# EAGLE library part TPS542* (library ic-TI)
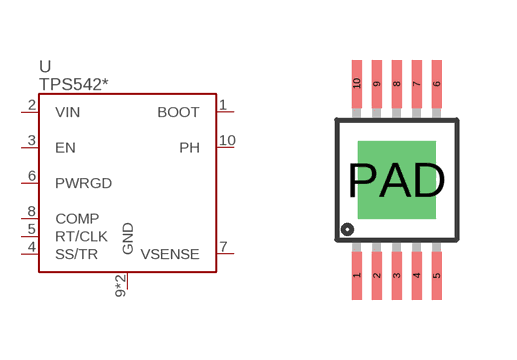
[diagram p45: symbol with the pads of MSOP10-PAD; footprint MSOP10-PAD]

Designator prefix U

## TPS54240DGQ, TPS54260DGQ  [MSOP10-PAD]
1  BOOT
2  VIN
3  EN
4  SS/TR
5  RT/CLK
6  PWRGD
7  VSENSE
8  COMP
9  GND
10  PH
PAD  GND

## Footprint MSOP10-PAD (pad centres in mm)
smd 0.25 x 1.2: 1 -1,-2.4; 2 -0.5,-2.4; 3 0,-2.4; 4 0.5,-2.4; 5 1,-2.4; 6 1,2.4; 7 0.5,2.4; 8 0,2.4; 9 -0.5,2.4; 10 -1,2.4
drill 1.3 pad 1.9 square: PAD 0,0